# EAGLE library part ADS1602 (library ICs)
Analogue to Digital Converter, 16 bit, 2.5 MSPS, Single, 4.75 V, 5.25 V, TQFP
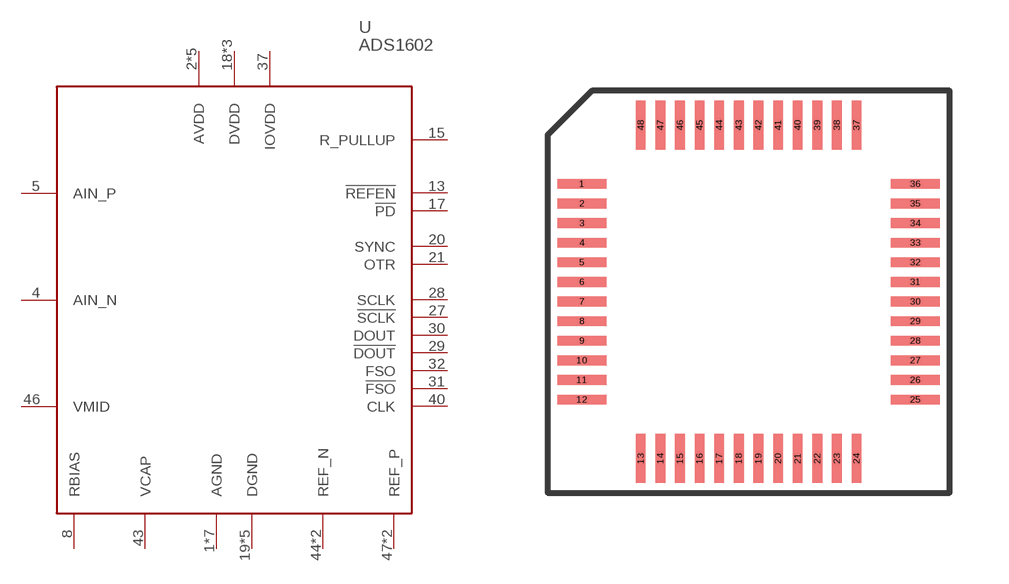
[diagram p93: symbol with the pads of QFP48; footprint QFP48]

Designator prefix U

## ADS1602IPFBT (FARNELL: 2496419; PRICE_PER: 10.56; VALUE: ADS1602)  [QFP48]
1  AGND
2  AVDD
3  AGND
4  AIN_N
5  AIN_P
6  AGND
7  AVDD
8  RBIAS
9  AGND
10  AVDD
11  AGND
12  AVDD
13  !REFEN
15  R_PULLUP
17  !PD
18  DVDD
19  DGND
20  SYNC
21  OTR
22  DGND
23  DVDD
27  !SCLK
28  SCLK
29  !DOUT
30  DOUT
31  !FSO
32  FSO
33  DGND
34  DVDD
36  DGND
37  IOVDD
38  DGND
39  AGND
40  CLK
41  AGND
42  AVDD
43  VCAP
44  REF_N
45  REF_N
46  VMID
47  REF_P
48  REF_P

## Footprint QFP48 (pad centres in mm)
smd 1.25 x 0.25: 1 -4.25,2.75; 2 -4.25,2.25; 3 -4.25,1.75; 4 -4.25,1.25; 5 -4.25,0.75; 6 -4.25,0.25; 7 -4.25,-0.25; 8 -4.25,-0.75; 9 -4.25,-1.25; 10 -4.25,-1.75; 11 -4.25,-2.25; 12 -4.25,-2.75; 25 4.25,-2.75; 26 4.25,-2.25; 27 4.25,-1.75; 28 4.25,-1.25; 29 4.25,-0.75; 30 4.25,-0.25; 31 4.25,0.25; 32 4.25,0.75; 33 4.25,1.25; 34 4.25,1.75; 35 4.25,2.25; 36 4.25,2.75
smd 0.25 x 1.25: 13 -2.75,-4.25; 14 -2.25,-4.25; 15 -1.75,-4.25; 16 -1.25,-4.25; 17 -0.75,-4.25; 18 -0.25,-4.25; 19 0.25,-4.25; 20 0.75,-4.25; 21 1.25,-4.25; 22 1.75,-4.25; 23 2.25,-4.25; 24 2.75,-4.25; 37 2.75,4.25; 38 2.25,4.25; 39 1.75,4.25; 40 1.25,4.25; 41 0.75,4.25; 42 0.25,4.25; 43 -0.25,4.25; 44 -0.75,4.25; 45 -1.25,4.25; 46 -1.75,4.25; 47 -2.25,4.25; 48 -2.75,4.25